# EAGLE library part SAGEM-HILNC (library X893)
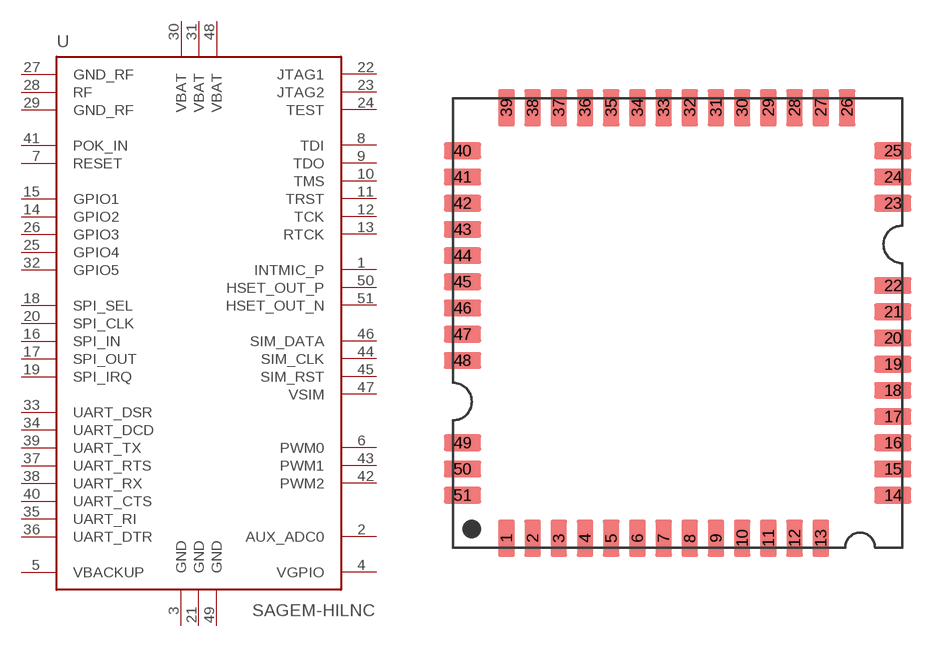
[diagram p32: symbol with the pads of SAGEM-HILONC; footprint SAGEM-HILONC]

Designator prefix U

## SAGEM-HILNC  [SAGEM-HILONC]
1  INTMIC_P
2  AUX_ADC0
3  GND
4  VGPIO
5  VBACKUP
6  PWM0
7  RESET
8  TDI
9  TDO
10  TMS
11  TRST
12  TCK
13  RTCK
14  GPIO2
15  GPIO1
16  SPI_IN
17  SPI_OUT
18  SPI_SEL
19  SPI_IRQ
20  SPI_CLK
21  GND
22  JTAG1
23  JTAG2
24  TEST
25  GPIO4
26  GPIO3
27  GND_RF
28  RF
29  GND_RF
30  VBAT
31  VBAT
32  GPIO5
33  UART_DSR
34  UART_DCD
35  UART_RI
36  UART_DTR
37  UART_RTS
38  UART_RX
39  UART_TX
40  UART_CTS
41  POK_IN
42  PWM2
43  PWM1
44  SIM_CLK
45  SIM_RST
46  SIM_DATA
47  VSIM
48  VBAT
49  GND
50  HSET_OUT_P
51  HSET_OUT_N

## Footprint SAGEM-HILONC (pad centres in mm)
smd 0.9 x 2: 1 2.85,0.5; 2 4.25,0.5; 3 5.65,0.5; 4 7.05,0.5; 5 8.45,0.5; 6 9.85,0.5; 7 11.25,0.5; 8 12.65,0.5; 9 14.05,0.5; 10 15.45,0.5; 11 16.85,0.5; 12 18.25,0.5; 13 19.65,0.5; 26 21.05,23.5; 27 19.65,23.5; 28 18.25,23.5; 29 16.85,23.5; 30 15.45,23.5; 31 14.05,23.5; 32 12.65,23.5; 33 11.25,23.5; 34 9.85,23.5; 35 8.45,23.5; 36 7.05,23.5; 37 5.65,23.5; 38 4.25,23.5; 39 2.85,23.5
smd 2 x 0.9: 14 23.5,2.8; 15 23.5,4.2; 16 23.5,5.6; 17 23.5,7; 18 23.5,8.4; 19 23.5,9.8; 20 23.5,11.2; 21 23.5,12.6; 22 23.5,14; 23 23.5,18.4; 24 23.5,19.8; 25 23.5,21.2; 40 0.5,21.2; 41 0.5,19.8; 42 0.5,18.4; 43 0.5,17; 44 0.5,15.6; 45 0.5,14.2; 46 0.5,12.8; 47 0.5,11.4; 48 0.5,10; 49 0.5,5.6; 50 0.5,4.2; 51 0.5,2.8